# Altium schematic symbol library DF37NB-10DS-0.4V(51).SchLib: 1 symbol
Pins are listed as number, name and electrical type; pins without a type are passive.

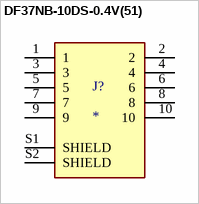
[diagram p0: symbol DF37NB-10DS-0.4V(51)]

## DF37NB-10DS-0.4V(51)
designator J?
10 Position Connector Receptacle, Center Strip Contacts Surface Mount Gold; MF: {'manufacturer': u'Hirose'}; MP: DF37NB-10DS-0.4V(51); Price: None; Value: *; Availability: Unavailable; Package: None
footprint HRS_DF37NB-10DS-0.4V(51)
pins: 1, 2, 3, 4, 5, 6, 7, 8, 9, 10, S1 SHIELD, S2 SHIELD